# EAGLE library part MAX6349TLUT (library HomeKinection)
The MAX6329/MAX6349 are low-dropout, micropower linear voltage regulators with integrated microprocessor reset circuits. Each is available with preset +3.3V, +2.5V, +1.8V, or adjustable output voltages and can deliver up to 150mA load current. Employing internal Pchannel MOSFET pass transistors, the devices consume only 25uA supply current, independent of the device load. The low supply current, low dropout voltage, and integrated reset functionality make these devices ideal for battery powered portable equipment. The MAX6329/MAX6349 include an internal reset circuit that indicates when the regulator output drops below standard microprocessor supply tolerances (-5% or -10%). The reset output remains asserted for 100ms (min) after the regulator output exceeds the selected reset threshold, ensuring that supply voltages and clock oscillators have stabilized before processor activity is enabled. Reset outputs are available in push-pull (activelow or -high) and open-drain (active-low) options. The internal reset circuit replaces external microprocessor supervisors or RC-based reset time delays. The MAX6329/MAX6349 are optimized for use with a 1uF (min) output capacitor. The regulator output voltage is adjustable with an external resistor-divider network at SET (reset threshold voltages track the desired output voltage). Each device includes thermal shutdown protection, output short-circuit protection, and reverse leakage protection. The MAX6329 includes a shutdown feature to reduce regulator current below 1uA (max) and the MAX6349 offers a manual reset input to assert a microprocessor reset while the regulator output is within specification.
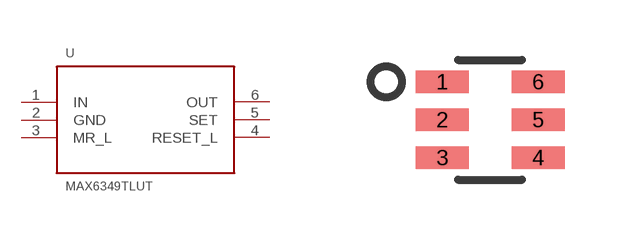
[diagram p3: symbol with the pads of 6SOT; footprint 6SOT]

Designator prefix -

## MAX6349TLUT  [6SOT]
1  IN  pwr
2  GND  pwr
3  MR_L  in
4  RESET_L  in
5  SET  in
6  OUT  pwr

## Footprint 6SOT (pad centres in mm)
smd 1.33 x 0.56: 1 -1.2,0.95; 2 -1.2,0; 3 -1.2,-0.95; 4 1.2,-0.95; 5 1.2,0; 6 1.2,0.95